# EAGLE library part HEADER8 (library robots)
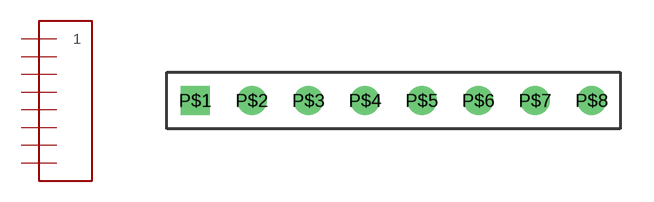
[diagram p5: symbol with the pads of 1X8; footprint 1X8]

Designator prefix -

## HEADER8  [1X8]
P$1  1
P$2  P$2
P$3  P$3
P$4  P$4
P$5  P$5
P$6  P$6
P$7  P$7
P$8  P$8

## Footprint 1X8 (pad centres in mm)
drill 0.813 square: P$1 0,0
drill 0.813 round: P$2 2.54,0; P$3 5.08,0; P$4 7.62,0; P$5 10.16,0; P$6 12.7,0; P$7 15.24,0; P$8 17.78,0